# EAGLE library part AMT112S-CONN (library Shell2013 (1))
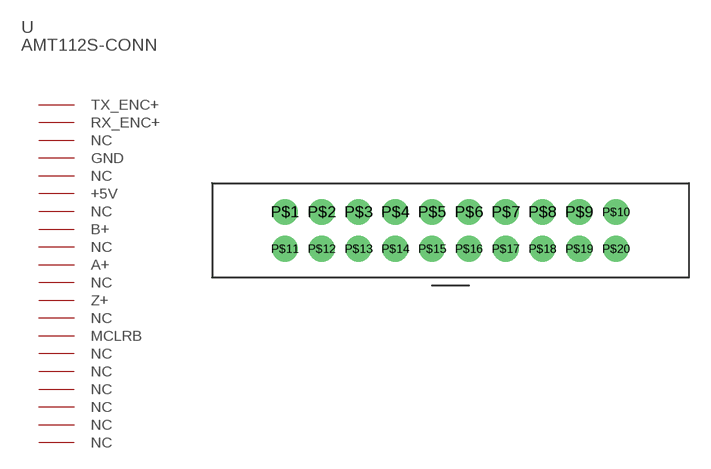
[diagram p12: symbol with the pads of 22-PIN-CONNECTOR; footprint 22-PIN-CONNECTOR]

Designator prefix -

## AMT112S-CONNACTUALLY_20_PIN  [22-PIN-CONNECTOR]
P$1  TX_ENC+
P$2  RX_ENC+
P$3  NC
P$4  GND
P$5  NC
P$6  +5V
P$7  NC
P$8  B+
P$9  NC
P$10  A+
P$11  NC
P$12  Z+
P$13  NC
P$14  MCLRB
P$15  NC
P$16  NC
P$17  NC
P$18  NC
P$19  NC
P$20  NC

## Footprint 22-PIN-CONNECTOR (pad centres in mm)
drill 1.1 pad 1.778: P$1 -11.43,1.27; P$2 -8.89,1.27; P$3 -6.35,1.27; P$4 -3.81,1.27; P$5 -1.27,1.27; P$6 1.27,1.27; P$7 3.81,1.27; P$8 6.35,1.27; P$9 8.89,1.27; P$10 11.43,1.27; P$11 -11.43,-1.27; P$12 -8.89,-1.27; P$13 -6.35,-1.27; P$14 -3.81,-1.27; P$15 -1.27,-1.27; P$16 1.27,-1.27; P$17 3.81,-1.27; P$18 6.35,-1.27; P$19 8.89,-1.27; P$20 11.43,-1.27